# EAGLE library part SIM300/900D (library candrian)
Designed by Andrianakis Charalampos email: microtro@gmail.com
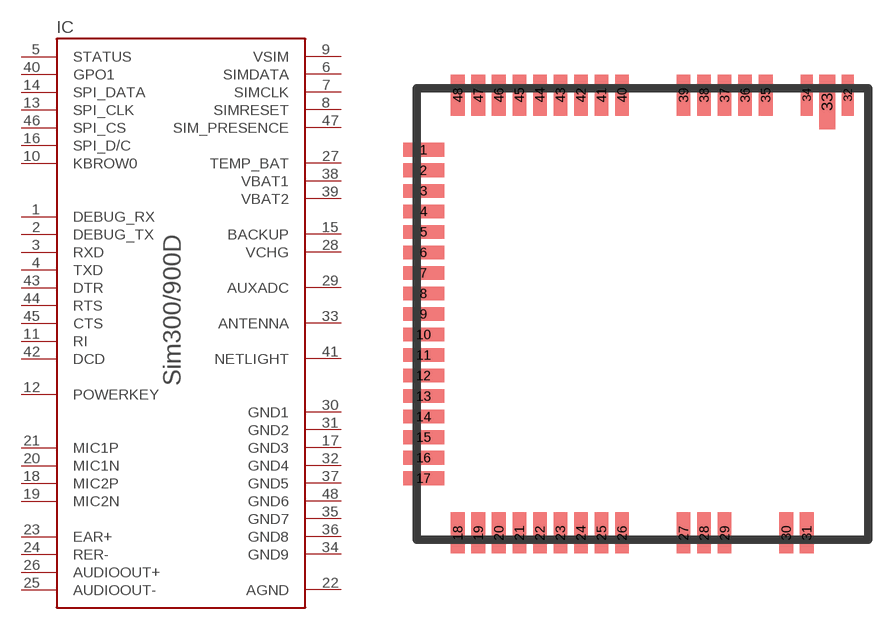
[diagram p0: symbol with the pads of SIM300/900D; footprint SIM300/900D]

Designator prefix IC

## SIM300/900D  [SIM300/900D]
1  DEBUG_RX
2  DEBUG_TX
3  RXD
4  TXD
5  STATUS
6  SIMDATA
7  SIMCLK
8  SIMRESET
9  VSIM
10  KBROW0
11  RI
12  POWERKEY
13  SPI_CLK
14  SPI_DATA
15  BACKUP
16  SPI_D/C
17  GND3
18  MIC2P
19  MIC2N
20  MIC1N
21  MIC1P
22  AGND
23  EAR+
24  RER-
25  AUDIOOUT-
26  AUDIOOUT+
27  TEMP_BAT
28  VCHG
29  AUXADC
30  GND1
31  GND2
32  GND4
33  ANTENNA
34  GND9
35  GND7
36  GND8
37  GND5
38  VBAT1
39  VBAT2
40  GPO1
41  NETLIGHT
42  DCD
43  DTR
44  RTS
45  CTS
46  SPI_CS
47  SIM_PRESENCE
48  GND6

## Footprint SIM300/900D (pad centres in mm)
smd 3 x 1: 1 -16,12; 2 -16,10.5; 3 -16,9; 4 -16,7.5; 5 -16,6; 6 -16,4.5; 7 -16,3; 8 -16,1.5; 9 -16,0; 10 -16,-1.5; 11 -16,-3; 12 -16,-4.5; 13 -16,-6; 14 -16,-7.5; 15 -16,-9; 16 -16,-10.5; 17 -16,-12
smd 1 x 3: 18 -13.5,-16; 19 -12,-16; 20 -10.5,-16; 21 -9,-16; 22 -7.5,-16; 23 -6,-16; 24 -4.5,-16; 25 -3,-16; 26 -1.5,-16; 27 3,-16; 28 4.5,-16; 29 6,-16; 30 10.5,-16; 31 12,-16; 35 9,16; 36 7.5,16; 37 6,16; 38 4.5,16; 39 3,16; 40 -1.5,16; 41 -3,16; 42 -4.5,16; 43 -6,16; 44 -7.5,16; 45 -9,16; 46 -10.5,16; 47 -12,16; 48 -13.5,16
smd 0.9 x 3: 32 15,16; 34 12,16
smd 1.2 x 4: 33 13.5,15.5